# EAGLE library part DM3AT-SF-PEJM5_40_ (library DM3AT-SF-PEJM5_40_)
Memory Card Connectors MICRO SD CD CONN STD SMT PUSHPUSH Source: Datasheet <https://componentsearchengine.com/Datasheets/2/DM3AT-SF-PEJM5(40).pdf>
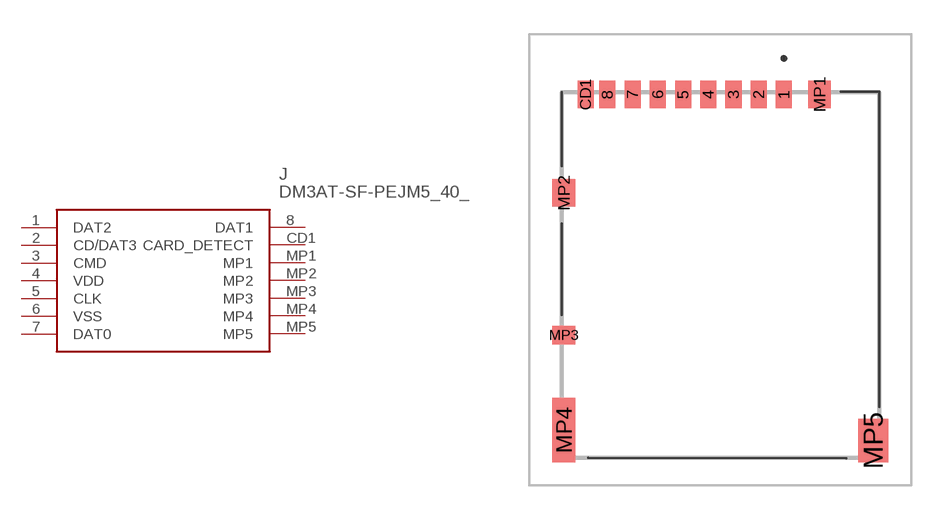
[diagram p0: symbol with the pads of DM3ATSFPEJM540; footprint DM3ATSFPEJM540]

Designator prefix J

## DM3AT-SF-PEJM5_40_ (Description: Memory Card Connectors MICRO SD CD CONN STD SMT PUSHPUSH; Height: 1.83mm; Manufacturer_Name: Hirose; Manufacturer_Part_Number: DM3AT-SF-PEJM5(40); Mouser_Part_Number: 798-DM3AT-SF-PEJM540; Mouser_Price-Stock: https://www.mouser.co.uk/ProductDetail/Hirose-Connector/DM3AT-SF-PEJM540?qs=0WLLhGLuJYzPvbo0KPPEoQ%3D%3D)  [DM3ATSFPEJM540]
1  DAT2
2  CD/DAT3
3  CMD
4  VDD
5  CLK
6  VSS
7  DAT0
8  DAT1
CD1  CARD_DETECT
MP1  MP1
MP2  MP2
MP3  MP3
MP4  MP4
MP5  MP5

## Footprint DM3ATSFPEJM540 (pad centres in mm)
DM3AT-SF-PEJM5(40)-3
smd 0.7 x 1.2: 1 0,0.6; 2 -1.1,0.6; 3 -2.2,0.6; 4 -3.3,0.6; 5 -4.4,0.6; 6 -5.5,0.6; 7 -6.6,0.6; 8 -7.7,0.6; CD1 -8.65,0.6
smd 1 x 1.2: MP1 1.55,0.6; MP2 -9.6,-3.7
smd 1 x 0.8: MP3 -9.6,-9.9
smd 1 x 2.8: MP4 -9.6,-14.05
smd 1.3 x 1.9: MP5 3.9,-14.5